# Altium schematic symbol library Schlib-ASM-ON-M29.SchLib: 1 symbol
Pins are listed as number, name and electrical type; pins without a type are passive.

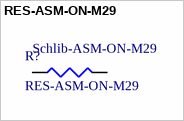
[diagram p0: symbol RES-ASM-ON-M29]

## RES-ASM-ON-M29
designator R?
ASM ON M29
footprint R0805-ASM-ON-M29
pins: 1, 2
text: Schlib-ASM-ON-M29